# EAGLE library part TPS565201 (library ti_2020)
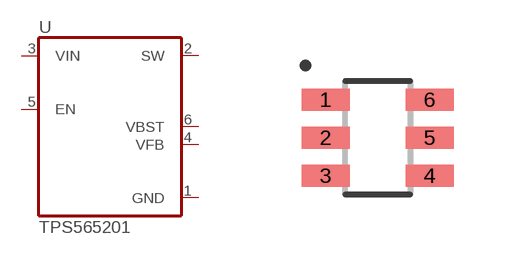
[diagram p0: symbol with the pads of SOT23-6; footprint SOT23-6]

Designator prefix -

## TPS565201DDC  [SOT23-6]
1  GND  out
2  SW  out
3  VIN  out
4  VFB  out
5  EN  out
6  VBST  out

## Footprint SOT23-6 (pad centres in mm)
smd 1.2 x 0.55: 1 -1.3,0.95; 2 -1.3,0; 3 -1.3,-0.95; 4 1.3,-0.95; 5 1.3,0; 6 1.3,0.95